# Altium schematic symbol library Cyberdeck.SchLib: 178 symbols (part 1 of 5)
Pins are listed as number, name and electrical type; pins without a type are passive.

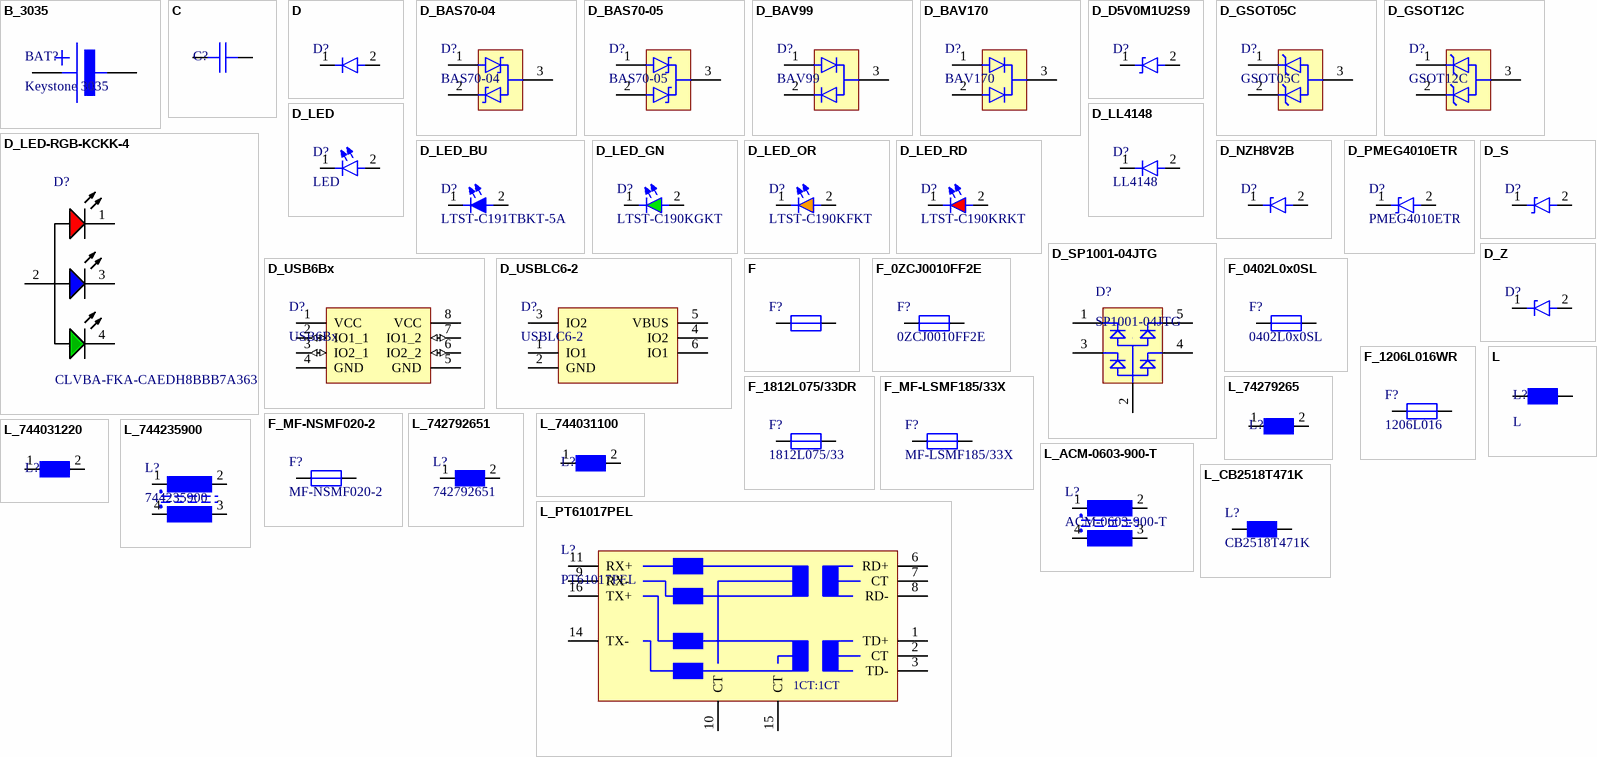
[diagram p0: symbols B_3035 to L_PT61017PEL]

## B_3035
designator BAT?, comment Keystone 3035
THM HOLDER FOR 20MM CELL NICKEL; Manufacturer: Keystone Electronics; Manufacturer Part Number: 3035; Number of Cells: 1; Supplier 1: Digi-Key; Supplier Part Number 1: 36-3035-ND; Stock 1: 9933; Pricing 1: 1=0.6, 10=0.558, 50=0.5516, 100=0.428, 250=0.3908, 500=0.3722, 1000=0.31265, 2500=0.27915, 5000=0.26985 (USD); Mount: Through Hole,PCB; Termination: PC Pin; ComponentLink1URL: http://www.keyelco.com/product-pdf.cfm?p=14185; ComponentLink1Description: http://www.keyelco.com/product-pdf.cfm?p=14185; Supplier 2: Digi-Key; Supplier Part Number 2: 609-1041-ND
footprint 3035 (Keystone 3035)
pins: 1 (power), 2 (power)

## C
designator C?
Chip capacitor, generic
footprint 0402_C
footprint 0603_C
footprint 0805_C_E0
footprint 1206_C_FC
footprint 1210_C_GD
footprint 1812_C_JC
pins: 1, 2

## D
designator D?, comment Diode  (value not drawn)
Diode, generic
footprint SOD80 (MELF Diode, 2-Leads, Body 3.45x1.30mm, IPC Medium Density)
footprint 0402_D
footprint 0603_D
footprint 0805_D
footprint SOD123 (SODFL, 2-Leads, Body 1.70x3.50mm, IPC Medium Density)
pins: 1, 2

## D_BAS70-04
designator D?, comment BAS70-04
DIODE ARRAY SCHOTTKY 70V SOT23; Manufacturer 1: Infineon; Manufacturer Part Number 1: BAS7004E6327HTSA1; Supplier 1: Digi-Key; Supplier Part Number 1: BAS7004E6327HTSA1CT-ND; Case/Package: SOT-23; ComponentLink1URL: https://datasheet.ciiva.com/1243/45894-1243522.pdf; ComponentLink1Description: https://datasheet.ciiva.com/1243/45894-1243522.pdf; ComponentLink2URL: https://datasheet.ciiva.com/26924/getdatasheetpartid-775787-26924731.pdf; ComponentLink2Description: https://datasheet.ciiva.com/26924/getdatasheetpartid-775787-26924731.pdf; ComponentLink3URL: https://datasheet.ciiva.com/25953/infineon-bas70-bas170series-ds-v01-01-en-25953243.pdf; ComponentLink3Description: https://datasheet.ciiva.com/25953/infineon-bas70-bas170series-ds-v01-01-en-25953243.pdf; ComponentLink4URL: https://datasheet.ciiva.com/1180/45894-1180127.pdf; ComponentLink4Description: https://datasheet.ciiva.com/1180/45894-1180127.pdf; ComponentLink5URL: https://datasheet.ciiva.com/1202/45894-1202974.pdf; ComponentLink5Description: https://datasheet.ciiva.com/1202/45894-1202974.pdf; ComponentLink6URL: https://datasheet.ciiva.com/8302/infineon-bas70-bas170series-ds-v01-01-en-8302987.pdf; ComponentLink6Description: https://datasheet.ciiva.com/8302/infineon-bas70-bas170series-ds-v01-01-en-8302987.pdf; ComponentLink7URL: https://datasheet.ciiva.com/906/infineon-bas70-bas170series-ds-v01-01-en-906277.pdf; ComponentLink7Description: https://datasheet.ciiva.com/906/infineon-bas70-bas170series-ds-v01-01-en-906277.pdf; ComponentLink8URL: https://datasheet.ciiva.com/906/infineon-bas70-bas170series-ds-v01-01-en-906276.pdf; ComponentLink8Description: https://datasheet.ciiva.com/906/infineon-bas70-bas170series-ds-v01-01-en-906276.pdf; ComponentLink9URL: https://datasheet.ciiva.com/906/infineon-bas70-bas170series-ds-v01-01-en-906278.pdf; ComponentLink9Description: https://datasheet.ciiva.com/906/infineon-bas70-bas170series-ds-v01-01-en-906278.pdf; ComponentLink10URL: https://datasheet.ciiva.com/3048/infineon-bas70-bas170series-ds-v01-01-en-3048117.pdf; ComponentLink10Description: https://datasheet.ciiva.com/3048/infineon-bas70-bas170series-ds-v01-01-en-3048117.pdf
footprint SOT-23 (SOT23, 3-Leads, Body 2.90x2.45mm, Pitch 0.95mm, IPC Medium Density)
pins: 1, 2, 3

## D_BAS70-05
designator D?, comment BAS70-05
Diode Schottky 70V 0.07A Automotive 3-Pin SOT-23 T/R; Manufacturer: Infineon; Manufacturer Part Number: BAS7005E6327HTSA1; Supplier 1: Digi-Key; Supplier Part Number 1: BAS7005E6327HTSA1CT-ND; Case/Package: SOT-23; ComponentLink1URL: https://datasheet.ciiva.com/3049/infineon-bas70-bas170series-ds-v01-01-en-3049350.pdf; ComponentLink1Description: https://datasheet.ciiva.com/3049/infineon-bas70-bas170series-ds-v01-01-en-3049350.pdf
footprint SOT-23 (SOT23, 3-Leads, Body 2.90x2.45mm, Pitch 0.95mm, IPC Medium Density)
pins: 1, 2, 3

## D_BAV99
designator D?, comment BAV99
DIODE, SW DUAL, 75V, 0.35W, SOT23-3; Manufacturer 1: Diodes; Manufacturer Part Number 1: BAV99-7-F; Supplier 1: Digi-Key; Supplier Part Number 1: BAV99-FDICT-ND; Case/Package: SOT-23; ComponentLink1URL: https://datasheet.ciiva.com/4435/ds12007-83610-4435123.pdf; ComponentLink1Description: https://datasheet.ciiva.com/4435/ds12007-83610-4435123.pdf; ComponentLink2URL: https://datasheet.ciiva.com/16199/ds12007-16199031.pdf; ComponentLink2Description: https://datasheet.ciiva.com/16199/ds12007-16199031.pdf; ComponentLink3URL: https://datasheet.ciiva.com/25954/ds12007-25954555.pdf; ComponentLink3Description: https://datasheet.ciiva.com/25954/ds12007-25954555.pdf; ComponentLink4URL: https://datasheet.ciiva.com/15144/getdatasheetpartid-88401-15144620.pdf; ComponentLink4Description: https://datasheet.ciiva.com/15144/getdatasheetpartid-88401-15144620.pdf; ComponentLink5URL: https://datasheet.ciiva.com/1180/ds12007-1180726.pdf; ComponentLink5Description: https://datasheet.ciiva.com/1180/ds12007-1180726.pdf; ComponentLink6URL: https://datasheet.ciiva.com/8303/ds12007-8303318.pdf; ComponentLink6Description: https://datasheet.ciiva.com/8303/ds12007-8303318.pdf; ComponentLink7URL: https://datasheet.ciiva.com/49516/1539331-49516470.pdf; ComponentLink7Description: https://datasheet.ciiva.com/49516/1539331-49516470.pdf
footprint SOT-23 (SOT23, 3-Leads, Body 2.90x2.45mm, Pitch 0.95mm, IPC Medium Density)
pins: 1, 2, 3

## D_BAV170
designator D?, comment BAV170
DIODE ARRAY GP 80V 200MA SOT23; Manufacturer: Infineon; Manufacturer Part Number: BAV170E6327; Supplier 1: Digi-Key; Supplier Part Number 1: BAV170E6327HTSA1CT-ND; Case/Package: SOT-23; ComponentLink1URL: https://datasheet.ciiva.com/8300/infineon-bav170series-ds-v01-01-en-8300657.pdf; ComponentLink1Description: https://datasheet.ciiva.com/8300/infineon-bav170series-ds-v01-01-en-8300657.pdf; ComponentLink2URL: https://datasheet.ciiva.com/4452/bav170series-84649-4452484.pdf; ComponentLink2Description: https://datasheet.ciiva.com/4452/bav170series-84649-4452484.pdf; ComponentLink3URL: https://datasheet.ciiva.com/26851/getdatasheetpartid-572321-26851099.pdf; ComponentLink3Description: https://datasheet.ciiva.com/26851/getdatasheetpartid-572321-26851099.pdf; ComponentLink4URL: https://datasheet.ciiva.com/908/infineon-bav170series-ds-v01-01-en-908727.pdf; ComponentLink4Description: https://datasheet.ciiva.com/908/infineon-bav170series-ds-v01-01-en-908727.pdf; ComponentLink5URL: https://datasheet.ciiva.com/908/infineon-bav170series-ds-v01-01-en-908728.pdf; ComponentLink5Description: https://datasheet.ciiva.com/908/infineon-bav170series-ds-v01-01-en-908728.pdf; ComponentLink6URL: https://datasheet.ciiva.com/908/infineon-bav170series-ds-v01-01-en-908729.pdf; ComponentLink6Description: https://datasheet.ciiva.com/908/infineon-bav170series-ds-v01-01-en-908729.pdf
footprint SOT-23 (SOT23, 3-Leads, Body 2.90x2.45mm, Pitch 0.95mm, IPC Medium Density)
pins: 1, 2, 3

## D_D5V0M1U2S9
designator D?, comment D5V0M1U2S9  (value not drawn)
SURFACE MOUNT UNIDIRECTIONAL TVS DIODE; Manufacturer: Diodes; Manufacturer Part Number: D5V0M1U2S9-7; Supplier 1: Digi-Key; Supplier Part Number 1: D5V0M1U2S9-7DICT-ND; ComponentLink1URL: http://www.mouser.com/ds/2/115/D5V0M1U2S9-756882.pdf; ComponentLink1Description: http://www.mouser.com/ds/2/115/D5V0M1U2S9-756882.pdf; ComponentLink2URL: https://www.diodes.com/assets/Datasheets/D5V0M1U2S9.pdf; ComponentLink2Description: https://www.diodes.com/assets/Datasheets/D5V0M1U2S9.pdf
footprint SOD923
pins: 1, 2

## D_GSOT05C
designator D?, comment GSOT05C
ESD Suppressor TVS ±30KV 3-Pin SOT-23 T/R; Manufacturer 1: Vishay; Manufacturer Part Number 1: GSOT05C-E3-08; Supplier 1: Digi-Key; Supplier Part Number 1: GSOT05C-E3-08CT-ND; Case/Package: SOT-23; ComponentLink1URL: https://datasheet.ciiva.com/24154/gsot03c-24154936.pdf; ComponentLink1Description: https://datasheet.ciiva.com/24154/gsot03c-24154936.pdf; ComponentLink2URL: https://datasheet.ciiva.com/29574/gsot03c-29574168.pdf; ComponentLink2Description: https://datasheet.ciiva.com/29574/gsot03c-29574168.pdf; ComponentLink3URL: https://datasheet.ciiva.com/29574/gsot03c-29574166.pdf; ComponentLink3Description: https://datasheet.ciiva.com/29574/gsot03c-29574166.pdf; ComponentLink4URL: https://datasheet.ciiva.com/29574/gsot03c-29574167.pdf; ComponentLink4Description: https://datasheet.ciiva.com/29574/gsot03c-29574167.pdf
footprint SOT-23 (SOT23, 3-Leads, Body 2.90x2.45mm, Pitch 0.95mm, IPC Medium Density)
pins: 1, 2, 3

## D_GSOT12C
designator D?, comment GSOT12C
ESD Suppressor TVS ±30KV 3-Pin SOT-23 T/R; Manufacturer 1: Vishay; Manufacturer Part Number 1: GSOT12C-E3-08; Supplier 1: Digi-Key; Supplier Part Number 1: GSOT12C-E3-08CT-ND; Case/Package: SOT-23; ComponentLink1URL: https://datasheet.ciiva.com/26945/getdatasheetpartid-790068-26945989.pdf; ComponentLink1Description: https://datasheet.ciiva.com/26945/getdatasheetpartid-790068-26945989.pdf; ComponentLink2URL: https://datasheet.ciiva.com/28375/gsot03c-28375373.pdf; ComponentLink2Description: https://datasheet.ciiva.com/28375/gsot03c-28375373.pdf; ComponentLink3URL: https://datasheet.ciiva.com/29588/gsot03c-29588509.pdf; ComponentLink3Description: https://datasheet.ciiva.com/29588/gsot03c-29588509.pdf; ComponentLink4URL: https://datasheet.ciiva.com/29588/gsot03c-29588508.pdf; ComponentLink4Description: https://datasheet.ciiva.com/29588/gsot03c-29588508.pdf; ComponentLink5URL: https://datasheet.ciiva.com/48533/gsot03c-48533337.pdf; ComponentLink5Description: https://datasheet.ciiva.com/48533/gsot03c-48533337.pdf; ComponentLink6URL: https://datasheet.ciiva.com/29588/gsot03c-29588507.pdf; ComponentLink6Description: https://datasheet.ciiva.com/29588/gsot03c-29588507.pdf
footprint SOT-23 (SOT23, 3-Leads, Body 2.90x2.45mm, Pitch 0.95mm, IPC Medium Density)
pins: 1, 2, 3

## D_LED
designator D?, comment LED
LED, generic
footprint LED-0603 (LED generic. 2-Leads, Body 1.6x0.8x0.95 mm)
footprint LED-0603 - WH (LED generic. 2-Leads, Body 1.6x0.8x0.95 mm)
pins: 1, 2

## D_LED-RGB-KCKK-4
designator D?, comment CLVBA-FKA-CAEDH8BBB7A363
3-in-1 SMD Led, 1.9 V Red, 3 V Green, 3 V Blue, -40 to 100 degC, 4-Pin PLCC, RoHS, Reel; Luminous Intensity: 71mcd,140mcd,36mcd; Viewing Angle: 120deg; Brand: Cree,Inc.; Lens Color/Style: UVTinted; Forward Current: 20mA; LED Size: 3.2mmx2.8mmx1.9mm; Wavelength/Color Temperature: 630nm,527nm,470nm; Forward Voltage: 1.9V,3V,3V; Illumination Color: RGB; Package / Case: PLCC-4; Package Reference: PLCC-4; Packaging: Reel; Maximum Operating Temperature: +100C; Minimum Operating Temperature: -40C; Product Category: StandardLEDs-SMD; Manufacturer URL: http://www.cree.com/; RoHS: Details; Factory Pack Quantity: 2000; Datasheet URL: http://datasheet.octopart.com/CLVBA-FKA-CAEDH8BBB7A363-Cree-datasheet-44497822.pdf; Manufacturer: Cree,Inc.; Mounting Technology: SurfaceMount; Package Description: 4-Pin Plastic Leaded Chip Carrier, Body 3.2 x 2.8 mm; Datasheet Version: 12/2014
footprint CLVBA-FKA_RGB_A_V (SMD, 4-Leads, Body 3.2x2.8mm)
pins: 1 RED, 2 COMMON, 3 BLUE, 4 GREEN

## D_LED_BU
designator D?, comment LTST-C191TBKT-5A
LED BLUE  0603 SMD; Manufacturer: Vishay Lite-On; Supplier 1: Digi-Key; Supplier Part Number 1: 160-2212-1-ND; Manufacturer Part Number: LTST-C191TBKT-5A; Case/Package: 0603; ComponentLink1URL: http://components.arrow.com/part/dataview/52218576S9813001N1331; ComponentLink1Description: http://components.arrow.com/part/dataview/52218576S9813001N1331; ComponentLink2URL: http://optoelectronics.liteon.com/zh-cn/api/DwonloadFileHandler.ashx?txtSpecNo=DS22-2003-020&txtPartNo=LTST-C191TBKT-5A; ComponentLink2Description: http://optoelectronics.liteon.com/zh-cn/api/DwonloadFileHandler.ashx?txtSpecNo=DS22-2003-020&txtPartNo=LTST-C191TBKT-5A; ComponentLink3URL: http://www.mouser.com/ds/2/239/LTST-C191TBKT-5A-1150649.pdf; ComponentLink3Description: http://www.mouser.com/ds/2/239/LTST-C191TBKT-5A-1150649.pdf
footprint LED-0603 (LED generic. 2-Leads, Body 1.6x0.8x0.95 mm)
footprint LED-0603 - BU (LED generic. 2-Leads, Body 1.6x0.8x0.95 mm)
pins: 1, 2

## D_LED_GN
designator D?, comment LTST-C190KGKT
LED GREEN  0603 SMD; Manufacturer 1: Vishay Lite-On; Supplier 1: Digi-Key; Supplier Part Number 1: 160-1435-1-ND; Manufacturer Part Number 1: LTST-C190KGKT; Case/Package: 0603; Colour: Green; ComponentLink1URL: https://datasheet.ciiva.com/11774/0900766b80dc02a8-11774060.pdf; ComponentLink1Description: https://datasheet.ciiva.com/11774/0900766b80dc02a8-11774060.pdf; ComponentLink2URL: https://datasheet.ciiva.com/12403/100-ltst-c190kgkt-63268-12403899.pdf; ComponentLink2Description: https://datasheet.ciiva.com/12403/100-ltst-c190kgkt-63268-12403899.pdf; ComponentLink3URL: https://datasheet.ciiva.com/15117/getdatasheetpartid-141494-15117731.pdf; ComponentLink3Description: https://datasheet.ciiva.com/15117/getdatasheetpartid-141494-15117731.pdf; ComponentLink4URL: https://datasheet.ciiva.com/2109/s-110-ltst-c190kgkt-2109989.pdf; ComponentLink4Description: https://datasheet.ciiva.com/2109/s-110-ltst-c190kgkt-2109989.pdf; ComponentLink5URL: https://datasheet.ciiva.com/2109/s-110-ltst-c190kgkt-2109988.pdf; ComponentLink5Description: https://datasheet.ciiva.com/2109/s-110-ltst-c190kgkt-2109988.pdf; ComponentLink6URL: https://datasheet.ciiva.com/2109/s-110-ltst-c190kgkt-2109990.pdf; ComponentLink6Description: https://datasheet.ciiva.com/2109/s-110-ltst-c190kgkt-2109990.pdf
footprint LED-0603 (LED generic. 2-Leads, Body 1.6x0.8x0.95 mm)
footprint LED-0603 - GN (LED generic. 2-Leads, Body 1.6x0.8x0.95 mm)
pins: 1, 2

## D_LED_OR
designator D?, comment LTST-C190KFKT
LED ORANGE  0603 SMD; Manufacturer: Vishay Lite-On; Supplier 1: Digi-Key; Supplier Part Number 1: 160-1434-1-ND; Manufacturer Part Number: LTST-C190KFKT; ComponentLink1URL: https://datasheet.ciiva.com/12400/100-ltst-c190kfkt-53640-12400769.pdf; ComponentLink1Description: https://datasheet.ciiva.com/12400/100-ltst-c190kfkt-53640-12400769.pdf; ComponentLink2URL: https://datasheet.ciiva.com/16396/lite-on20ltst-c190kfkt-16396246.pdf; ComponentLink2Description: https://datasheet.ciiva.com/16396/lite-on20ltst-c190kfkt-16396246.pdf; ComponentLink3URL: https://datasheet.ciiva.com/11774/0900766b80dc02a7-11774744.pdf; ComponentLink3Description: https://datasheet.ciiva.com/11774/0900766b80dc02a7-11774744.pdf; ComponentLink4URL: https://datasheet.ciiva.com/15201/getdatasheetpartid-309341-15201388.pdf; ComponentLink4Description: https://datasheet.ciiva.com/15201/getdatasheetpartid-309341-15201388.pdf; ComponentLink5URL: https://datasheet.ciiva.com/2109/s-110-ltst-c190kfkt-2109976.pdf; ComponentLink5Description: https://datasheet.ciiva.com/2109/s-110-ltst-c190kfkt-2109976.pdf; ComponentLink6URL: https://datasheet.ciiva.com/2109/s-110-ltst-c190kfkt-2109977.pdf; ComponentLink6Description: https://datasheet.ciiva.com/2109/s-110-ltst-c190kfkt-2109977.pdf; ComponentLink7URL: https://datasheet.ciiva.com/2109/s-110-ltst-c190kfkt-2109978.pdf; ComponentLink7Description: https://datasheet.ciiva.com/2109/s-110-ltst-c190kfkt-2109978.pdf; ComponentLink8URL: https://datasheet.ciiva.com/15116/getdatasheetpartid-719825-15116727.pdf; ComponentLink8Description: https://datasheet.ciiva.com/15116/getdatasheetpartid-719825-15116727.pdf; ComponentLink13URL: https://datasheet.ciiva.com/16214/abmm2-16214428.pdf; ComponentLink13Description: https://datasheet.ciiva.com/16214/abmm2-16214428.pdf
footprint LED-0603 (LED generic. 2-Leads, Body 1.6x0.8x0.95 mm)
footprint LED-0603 - OR (LED generic. 2-Leads, Body 1.6x0.8x0.95 mm)
pins: 1, 2

## D_LED_RD
designator D?, comment LTST-C190KRKT
LED RED  0603 SMD; Manufacturer 1: Vishay Lite-On; Supplier 1: Digi-Key; Supplier Part Number 1: 160-1436-1-ND; Manufacturer Part Number 1: LTST-C190KRKT; Case/Package: 0603; ComponentLink1URL: https://datasheet.ciiva.com/11774/0900766b80dc02a9-11774043.pdf; ComponentLink1Description: https://datasheet.ciiva.com/11774/0900766b80dc02a9-11774043.pdf; ComponentLink2URL: https://datasheet.ciiva.com/15117/getdatasheetpartid-57395-15117240.pdf; ComponentLink2Description: https://datasheet.ciiva.com/15117/getdatasheetpartid-57395-15117240.pdf; ComponentLink3URL: https://datasheet.ciiva.com/16427/ltst-c190krkt-16427674.pdf; ComponentLink3Description: https://datasheet.ciiva.com/16427/ltst-c190krkt-16427674.pdf; ComponentLink4URL: https://datasheet.ciiva.com/12403/100-ltst-c190krkt-59805-12403895.pdf; ComponentLink4Description: https://datasheet.ciiva.com/12403/100-ltst-c190krkt-59805-12403895.pdf; ComponentLink5URL: https://datasheet.ciiva.com/19482/1260381-19482354.pdf; ComponentLink5Description: https://datasheet.ciiva.com/19482/1260381-19482354.pdf; ComponentLink6URL: https://datasheet.ciiva.com/2109/s-110-ltst-c190krkt-2109992.pdf; ComponentLink6Description: https://datasheet.ciiva.com/2109/s-110-ltst-c190krkt-2109992.pdf; ComponentLink7URL: https://datasheet.ciiva.com/2109/s-110-ltst-c190krkt-2109993.pdf; ComponentLink7Description: https://datasheet.ciiva.com/2109/s-110-ltst-c190krkt-2109993.pdf; ComponentLink8URL: https://datasheet.ciiva.com/2109/s-110-ltst-c190krkt-2109991.pdf; ComponentLink8Description: https://datasheet.ciiva.com/2109/s-110-ltst-c190krkt-2109991.pdf; ComponentLink9URL: https://datasheet.ciiva.com/26937/getdatasheetpartid-631582-26937958.pdf; ComponentLink9Description: https://datasheet.ciiva.com/26937/getdatasheetpartid-631582-26937958.pdf
footprint LED-0603 (LED generic. 2-Leads, Body 1.6x0.8x0.95 mm)
footprint LED-0603 - RD (LED generic. 2-Leads, Body 1.6x0.8x0.95 mm)
pins: 1, 2

## D_LL4148
designator D?, comment LL4148
DIODE GEN PURP 100V 200MA SOD80; Manufacturer 1: ON Semiconductor / Fairchild; Supplier 1: Digi-Key; Supplier Part Number 1: LL4148FSCT-ND; Manufacturer Part Number 1: LL4148; ComponentLink1URL: https://datasheet.ciiva.com/4453/ll4148-70504-4453114.pdf; ComponentLink1Description: https://datasheet.ciiva.com/4453/ll4148-70504-4453114.pdf; ComponentLink2URL: https://datasheet.ciiva.com/27048/94908-27048041.pdf; ComponentLink2Description: https://datasheet.ciiva.com/27048/94908-27048041.pdf; ComponentLink3URL: https://datasheet.ciiva.com/1181/1730036-1181026.pdf; ComponentLink3Description: https://datasheet.ciiva.com/1181/1730036-1181026.pdf; ComponentLink4URL: https://datasheet.ciiva.com/8303/ll4148-8303779.pdf; ComponentLink4Description: https://datasheet.ciiva.com/8303/ll4148-8303779.pdf; ComponentLink5URL: https://datasheet.ciiva.com/26912/getdatasheetpartid-110057-26912779.pdf; ComponentLink5Description: https://datasheet.ciiva.com/26912/getdatasheetpartid-110057-26912779.pdf; ComponentLink6URL: https://datasheet.ciiva.com/8053/1896420-8053645.pdf; ComponentLink6Description: https://datasheet.ciiva.com/8053/1896420-8053645.pdf; ComponentLink7URL: https://datasheet.ciiva.com/22735/1896420-22735578.pdf; ComponentLink7Description: https://datasheet.ciiva.com/22735/1896420-22735578.pdf; ComponentLink8URL: https://datasheet.ciiva.com/910/ll4148-910343.pdf; ComponentLink8Description: https://datasheet.ciiva.com/910/ll4148-910343.pdf; ComponentLink9URL: https://datasheet.ciiva.com/910/ll4148-910344.pdf; ComponentLink9Description: https://datasheet.ciiva.com/910/ll4148-910344.pdf; ComponentLink10URL: https://datasheet.ciiva.com/910/ll4148-910345.pdf; ComponentLink10Description: https://datasheet.ciiva.com/910/ll4148-910345.pdf
footprint SOD80 (MELF Diode, 2-Leads, Body 3.45x1.30mm, IPC Medium Density)
pins: 1, 2

## D_NZH8V2B
designator D?, comment NZH8V2B  (value not drawn)
Diode Zener Single 8.19V 2% 1W Automotive 2-Pin SOD-123F T/R; Manufacturer 1: NXP Semiconductors; Manufacturer Part Number 1: NZH8V2B,115; Supplier 1: Digi-Key; Supplier Part Number 1: 1727-5080-1-ND; ComponentLink1URL: https://datasheet.ciiva.com/17265/nzh-ser-17265389.pdf; ComponentLink1Description: https://datasheet.ciiva.com/17265/nzh-ser-17265389.pdf; ComponentLink2URL: https://datasheet.ciiva.com/10645/nzh-ser-10645279.pdf; ComponentLink2Description: https://datasheet.ciiva.com/10645/nzh-ser-10645279.pdf; ComponentLink3URL: https://datasheet.ciiva.com/890/nzh-ser-890277.pdf; ComponentLink3Description: https://datasheet.ciiva.com/890/nzh-ser-890277.pdf; ComponentLink4URL: https://datasheet.ciiva.com/890/nzh-ser-890275.pdf; ComponentLink4Description: https://datasheet.ciiva.com/890/nzh-ser-890275.pdf; ComponentLink5URL: https://datasheet.ciiva.com/890/nzh-ser-890276.pdf; ComponentLink5Description: https://datasheet.ciiva.com/890/nzh-ser-890276.pdf
footprint SOD123 (SODFL, 2-Leads, Body 1.70x3.50mm, IPC Medium Density)
pins: 1, 2

## D_PMEG4010ETR
designator D?, comment PMEG4010ETR
Diode Schottky 40V 1A 2-Pin SOD-123W; Manufacturer 1: NXP Semiconductors; Manufacturer Part Number 1: PMEG4010ETR,115; ComponentLink1URL: https://datasheet.ciiva.com/24111/pmeg4010etr-278098-24111944.pdf; ComponentLink1Description: https://datasheet.ciiva.com/24111/pmeg4010etr-278098-24111944.pdf; ComponentLink2URL: https://datasheet.ciiva.com/29592/pmeg4010etr-29592374.pdf; ComponentLink2Description: https://datasheet.ciiva.com/29592/pmeg4010etr-29592374.pdf; ComponentLink3URL: https://datasheet.ciiva.com/29592/pmeg4010etr-29592375.pdf; ComponentLink3Description: https://datasheet.ciiva.com/29592/pmeg4010etr-29592375.pdf; Supplier 1: Digi-Key; Supplier Part Number 1: 1727-1341-1-ND
footprint SOD123 (SODFL, 2-Leads, Body 1.70x3.50mm, IPC Medium Density)
pins: 1, 2

## D_S
designator D?, comment Schottky Diode  (value not drawn)
Schottky diode, generic
footprint 0402_D
footprint 0603_D
footprint 0805_D
footprint SOD123 (SODFL, 2-Leads, Body 1.70x3.50mm, IPC Medium Density)
pins: 1, 2

## D_SP1001-04JTG
designator D?, comment SP1001-04JTG
TVS DIODE 5.5V 13V SC70-5; Manufacturer: Littelfuse; Direction: Unidirectional; Capacitance: 8pF; Max Surge Current: 2A; Number of Channels: 4; Min Breakdown Voltage: 7V; Power Line Protection: No; Leakage Current: 500nA; Supplier 1: Digi-Key; Supplier Part Number 1: F2895DKR-ND; Manufacturer Part Number: SP1001-04JTG; Stock 1: 12164; Pricing 1: 1 = 0.62000, 10 = 0.51900, 25 = 0.45440, 100 = 0.38930, 250 = 0.33744, 500 = 0.28552, 1000 = 0.22063 (USD); RoHS: Yes; Mount: Surface Mount; Case/Package: SC; Number of Pins: 5; Min Operating Temperature: -40°C; Max Operating Temperature: 85°C; Operating Supply Voltage: 5.5V; Packaging: Tape and Reel; Package Quantity: 3000; Polarity: Unidirectional; Breakdown Voltage: 5.5V; Clamping Voltage: 13V; Termination: SMD/SMT; Number of Unidirectional Channels: 4; Reverse Standoff Voltage: 5.5V; Working Voltage: 5.5V; Peak Pulse Current: 2A; Composition: Zener; Length: 2.25mm; Depth: 1.35mm; Radiation Hardening: No; REACH SVHC: Unknown; Lead Free: Lead Free; ComponentLink1URL: https://datasheet.ciiva.com/4510/littelfuse-spa-sp1001-0x-63620-4510770.pdf?src-supplier=Mouser; ComponentLink1Description: https://datasheet.ciiva.com/4510/littelfuse-spa-sp1001-0x-63620-4510770.pdf?src-supplier=Mouser; ComponentLink2URL: https://datasheet.ciiva.com/331/littelfuse-tvs-diode-array-sp1001-datasheet-pdf-331764.pdf?src-supplier=Digi-Key; ComponentLink2Description: https://datasheet.ciiva.com/331/littelfuse-tvs-diode-array-sp1001-datasheet-pdf-331764.pdf?src-supplier=Digi-Key; ComponentLink3URL: https://datasheet.ciiva.com/331/littelfuse-tvs-diode-array-sp1001-datasheet-pdf-331765.pdf?src-supplier=Digi-Key; ComponentLink3Description: https://datasheet.ciiva.com/331/littelfuse-tvs-diode-array-sp1001-datasheet-pdf-331765.pdf?src-supplier=Digi-Key; ComponentLink4URL: https://datasheet.ciiva.com/331/littelfuse-tvs-diode-array-sp1001-datasheet-pdf-331766.pdf?src-supplier=Digi-Key; ComponentLink4Description: https://datasheet.ciiva.com/331/littelfuse-tvs-diode-array-sp1001-datasheet-pdf-331766.pdf?src-supplier=Digi-Key; ComponentLink5URL: https://datasheet.ciiva.com/1268/littelfuse-spa-sp1001-0x-1268334.pdf?src-supplier=Element14; ComponentLink5Description: https://datasheet.ciiva.com/1268/littelfuse-spa-sp1001-0x-1268334.pdf?src-supplier=Element14
footprint SOT353-1
pins: 1, 2, 3, 4, 5

## D_USB6Bx
designator D?, comment USB6Bx
TVS DIODE 5.25VWM 8SOIC; Manufacturer 1: STMicroelectronics; Manufacturer Part Number 1: USB6B1RL; Case/Package: SOIC; ComponentLink1URL: https://datasheet.ciiva.com/26787/usb6b1rl-26787915.pdf; ComponentLink1Description: https://datasheet.ciiva.com/26787/usb6b1rl-26787915.pdf; ComponentLink2URL: https://datasheet.ciiva.com/26912/getdatasheetpartid-202409-26912476.pdf; ComponentLink2Description: https://datasheet.ciiva.com/26912/getdatasheetpartid-202409-26912476.pdf; ComponentLink3URL: https://datasheet.ciiva.com/4508/cd00001361-4508455.pdf; ComponentLink3Description: https://datasheet.ciiva.com/4508/cd00001361-4508455.pdf; Supplier 1: Digi-Key; Supplier Part Number 1: 497-3281-1-ND
footprint SO8 (SOIC, 8-Leads, Body 4.90x3.90mm, Pitch 1.27mm, IPC Medium Density)
pins: 1 VCC (power), 2 IO1_1 (io), 3 IO2_1 (io), 4 GND (power), 5 GND (power), 6 IO2_2 (io), 7 IO1_2 (io), 8 VCC (power)

## D_USBLC6-2
designator D?, comment USBLC6-2
TVS DIODE 5.25VWM 17VC SOT666; Manufacturer: STMicroelectronics; Manufacturer Part Number: USBLC6-2P6; Supplier 1: Digi-Key; Supplier Part Number 1: 497-5026-1-ND; ComponentLink1URL: https://datasheet.ciiva.com/15143/getdatasheetpartid-98673-15143462.pdf; ComponentLink1Description: https://datasheet.ciiva.com/15143/getdatasheetpartid-98673-15143462.pdf; ComponentLink2URL: https://datasheet.ciiva.com/14186/usblc6-2-st-eng-tds-14186568.pdf; ComponentLink2Description: https://datasheet.ciiva.com/14186/usblc6-2-st-eng-tds-14186568.pdf; ComponentLink3URL: https://datasheet.ciiva.com/22692/1690354-22692453.pdf; ComponentLink3Description: https://datasheet.ciiva.com/22692/1690354-22692453.pdf; ComponentLink4URL: https://datasheet.ciiva.com/22685/1690354-22685832.pdf; ComponentLink4Description: https://datasheet.ciiva.com/22685/1690354-22685832.pdf; ComponentLink5URL: https://datasheet.ciiva.com/16378/cd00050750-16378714.pdf; ComponentLink5Description: https://datasheet.ciiva.com/16378/cd00050750-16378714.pdf; ComponentLink6URL: https://datasheet.ciiva.com/4508/cd00050750-4508892.pdf; ComponentLink6Description: https://datasheet.ciiva.com/4508/cd00050750-4508892.pdf; ComponentLink7URL: https://datasheet.ciiva.com/41444/001184108-da-01-en-ic-esd-protection-usblc6-2p6-sot-666-stm-41444134.pdf; ComponentLink7Description: https://datasheet.ciiva.com/41444/001184108-da-01-en-ic-esd-protection-usblc6-2p6-sot-666-stm-41444134.pdf; Case/Package: SOT-666
footprint SOT-666 (SOTFL, 6-Leads, Body 1.60x1.60mm, Pitch 0.50mm, IPC Medium Density)
pins: 1 IO1, 2 GND, 3 IO2, 4 IO2, 5 VBUS, 6 IO1

## D_Z
designator D?, comment Zehner Diode  (value not drawn)
Zehner Diode, generic
footprint 0402_D
footprint 0603_D
footprint 0805_D
footprint DO-214AC
footprint SOD123 (SODFL, 2-Leads, Body 1.70x3.50mm, IPC Medium Density)
pins: 1, 2

## F
designator F?
Fuse generic
footprint 0402_PTC
footprint 1206_PTC
footprint 1812_PTC
footprint MF-LSMF185/33X
pins: 1, 2

## F_0ZCJ0010FF2E
designator F?, comment 0ZCJ0010FF2E
PTC RESTTBLE 0.10A 60V CHIP 1206; Manufacturer: Bel; Supplier 1: Digi-Key; Supplier Part Number 1: 507-1794-1-ND; Manufacturer Part Number: 0ZCJ0010FF2E; Case/Package: 1206; ComponentLink1URL: https://datasheet.ciiva.com/18550/0zcj-18550598.pdf; ComponentLink1Description: https://datasheet.ciiva.com/18550/0zcj-18550598.pdf; ComponentLink2URL: https://datasheet.ciiva.com/18550/0zcj-18550599.pdf; ComponentLink2Description: https://datasheet.ciiva.com/18550/0zcj-18550599.pdf; ComponentLink3URL: https://datasheet.ciiva.com/18550/0zcj-18550600.pdf; ComponentLink3Description: https://datasheet.ciiva.com/18550/0zcj-18550600.pdf
footprint 1206_PTC
pins: 1, 2

## F_0402L0x0SL
designator F?, comment 0402L0x0SL
PTC RESETBLE 6V, 0402; Manufacturer 1: Littelfuse; Manufacturer Part Number 1: 0402L010SLKR; Supplier 1: Digi-Key; Case/Package: 0402; ComponentLink1URL: https://datasheet.ciiva.com/7443/littelfuse-ptc-lorho-datasheet-pdf-7443453.pdf; ComponentLink1Description: https://datasheet.ciiva.com/7443/littelfuse-ptc-lorho-datasheet-pdf-7443453.pdf; ComponentLink2URL: https://datasheet.ciiva.com/15201/getdatasheetpartid-712926-15201162.pdf; ComponentLink2Description: https://datasheet.ciiva.com/15201/getdatasheetpartid-712926-15201162.pdf; ComponentLink3URL: https://datasheet.ciiva.com/7443/littelfuse-ptc-lorho-datasheet-pdf-7443463.pdf; ComponentLink3Description: https://datasheet.ciiva.com/7443/littelfuse-ptc-lorho-datasheet-pdf-7443463.pdf; Supplier Part Number 1: F5756CT-ND
footprint 04020x0SL (04020x0SL, Resettable PTC)
pins: 1, 2

## F_1206L016WR
designator F?, comment 1206L016
PTC RESET 30V .160A SMD 1206; Manufacturer 1: Littelfuse; Manufacturer Part Number 1: 1206L016WR; Supplier 1: Digi-Key; Supplier Part Number 1: F3132CT-ND; Case/Package: 1206; ComponentLink1URL: https://datasheet.ciiva.com/16321/littelfuse-1206l-16321409.pdf; ComponentLink1Description: https://datasheet.ciiva.com/16321/littelfuse-1206l-16321409.pdf; ComponentLink2URL: https://datasheet.ciiva.com/30470/0900766b8128f4fb-30470039.pdf; ComponentLink2Description: https://datasheet.ciiva.com/30470/0900766b8128f4fb-30470039.pdf; ComponentLink3URL: https://datasheet.ciiva.com/14102/1206l-eng-datasheet-14102816.pdf; ComponentLink3Description: https://datasheet.ciiva.com/14102/1206l-eng-datasheet-14102816.pdf; ComponentLink4URL: https://datasheet.ciiva.com/1273/578280-1273584.pdf; ComponentLink4Description: https://datasheet.ciiva.com/1273/578280-1273584.pdf; ComponentLink5URL: https://datasheet.ciiva.com/325/littelfuse-ptc-1206l-325749.pdf; ComponentLink5Description: https://datasheet.ciiva.com/325/littelfuse-ptc-1206l-325749.pdf; ComponentLink6URL: https://datasheet.ciiva.com/1273/littelfuse-ptc-1206l-1273585.pdf; ComponentLink6Description: https://datasheet.ciiva.com/1273/littelfuse-ptc-1206l-1273585.pdf; ComponentLink7URL: https://datasheet.ciiva.com/325/littelfuse-ptc-1206l-325747.pdf; ComponentLink7Description: https://datasheet.ciiva.com/325/littelfuse-ptc-1206l-325747.pdf; ComponentLink8URL: https://datasheet.ciiva.com/325/littelfuse-ptc-1206l-325748.pdf; ComponentLink8Description: https://datasheet.ciiva.com/325/littelfuse-ptc-1206l-325748.pdf
footprint 1206_PTC
pins: 1, 2

## F_1812L075/33DR
designator F?, comment 1812L075/33
PTC RESETTABLE 33V 750MA 1812L; Manufacturer 1: Littelfuse; Manufacturer Part Number 1: 1812L075/33DR; Supplier 1: Digi-Key; Supplier Part Number 1: F3355CT-ND; Case/Package: 1812; ComponentLink1URL: https://datasheet.ciiva.com/30470/0900766b8128f4f7-30470050.pdf; ComponentLink1Description: https://datasheet.ciiva.com/30470/0900766b8128f4f7-30470050.pdf; ComponentLink2URL: https://datasheet.ciiva.com/1273/578288-1273739.pdf; ComponentLink2Description: https://datasheet.ciiva.com/1273/578288-1273739.pdf; ComponentLink3URL: https://datasheet.ciiva.com/1273/littelfuse-ptc-1812l-1273740.pdf; ComponentLink3Description: https://datasheet.ciiva.com/1273/littelfuse-ptc-1812l-1273740.pdf; ComponentLink4URL: https://datasheet.ciiva.com/325/littelfuse-ptc-1812l-325928.pdf; ComponentLink4Description: https://datasheet.ciiva.com/325/littelfuse-ptc-1812l-325928.pdf; ComponentLink5URL: https://datasheet.ciiva.com/325/littelfuse-ptc-1812l-325926.pdf; ComponentLink5Description: https://datasheet.ciiva.com/325/littelfuse-ptc-1812l-325926.pdf; ComponentLink6URL: https://datasheet.ciiva.com/325/littelfuse-ptc-1812l-325927.pdf; ComponentLink6Description: https://datasheet.ciiva.com/325/littelfuse-ptc-1812l-325927.pdf
footprint 1812_PTC
pins: 1, 2

## F_MF-LSMF185/33X
designator F?, comment MF-LSMF185/33X
FUSE PTC RESET 1.85A 33V SMD; Manufacturer: Bourns; Manufacturer Part Number: MF-LSMF185/33X-2; Supplier 1: Digi-Key; Supplier Part Number 1: MF-LSMF185/33X-2CT-ND; Case/Package: 2920; ComponentLink1URL: https://datasheet.ciiva.com/16206/mflsmf-16206021.pdf; ComponentLink1Description: https://datasheet.ciiva.com/16206/mflsmf-16206021.pdf; ComponentLink2URL: https://datasheet.ciiva.com/23655/1480010-23655431.pdf; ComponentLink2Description: https://datasheet.ciiva.com/23655/1480010-23655431.pdf; ComponentLink3URL: https://datasheet.ciiva.com/4501/mflsmf-16789-4501041.pdf; ComponentLink3Description: https://datasheet.ciiva.com/4501/mflsmf-16789-4501041.pdf; ComponentLink4URL: https://datasheet.ciiva.com/1274/1727942-1274469.pdf; ComponentLink4Description: https://datasheet.ciiva.com/1274/1727942-1274469.pdf; ComponentLink5URL: https://datasheet.ciiva.com/3019/mflsmf-3019774.pdf; ComponentLink5Description: https://datasheet.ciiva.com/3019/mflsmf-3019774.pdf; ComponentLink6URL: https://datasheet.ciiva.com/326/mflsmf-326541.pdf; ComponentLink6Description: https://datasheet.ciiva.com/326/mflsmf-326541.pdf; ComponentLink7URL: https://datasheet.ciiva.com/30075/575mfmsmf-30075887.pdf; ComponentLink7Description: https://datasheet.ciiva.com/30075/575mfmsmf-30075887.pdf; ComponentLink8URL: https://datasheet.ciiva.com/3019/mflsmf-3019775.pdf; ComponentLink8Description: https://datasheet.ciiva.com/3019/mflsmf-3019775.pdf; ComponentLink9URL: https://datasheet.ciiva.com/326/mflsmf-326539.pdf; ComponentLink9Description: https://datasheet.ciiva.com/326/mflsmf-326539.pdf; ComponentLink10URL: https://datasheet.ciiva.com/22657/1727942-22657834.pdf; ComponentLink10Description: https://datasheet.ciiva.com/22657/1727942-22657834.pdf; ComponentLink11URL: https://datasheet.ciiva.com/326/mflsmf-326540.pdf; ComponentLink11Description: https://datasheet.ciiva.com/326/mflsmf-326540.pdf; ComponentLink12URL: https://datasheet.ciiva.com/48686/001055627-da-01-en-sich-ptc-res-mf-lsmf185-33x-2-1-85a33v-48686507.pdf; ComponentLink12Description: https://datasheet.ciiva.com/48686/001055627-da-01-en-sich-ptc-res-mf-lsmf185-33x-2-1-85a33v-48686507.pdf
footprint MF-LSMF185/33X
pins: 1, 2

## F_MF-NSMF020-2
designator F?, comment MF-NSMF020-2
FUSE RESETTABLE .20A HOLD SMD; Manufacturer: Bourns; Supplier 1: Digi-Key; Supplier Part Number 1: MF-NSMF020-2CT-ND; Case/Package: 1206; ComponentLink1URL: https://datasheet.ciiva.com/27056/2020355-27056263.pdf; ComponentLink1Description: https://datasheet.ciiva.com/27056/2020355-27056263.pdf; ComponentLink2URL: https://datasheet.ciiva.com/3019/mfnsmf-3019634.pdf; ComponentLink2Description: https://datasheet.ciiva.com/3019/mfnsmf-3019634.pdf; ComponentLink3URL: https://datasheet.ciiva.com/3019/mfnsmf-3019635.pdf; ComponentLink3Description: https://datasheet.ciiva.com/3019/mfnsmf-3019635.pdf; ComponentLink4URL: https://datasheet.ciiva.com/22712/1738992-22712181.pdf; ComponentLink4Description: https://datasheet.ciiva.com/22712/1738992-22712181.pdf; ComponentLink5URL: https://datasheet.ciiva.com/46385/1738992-46385141.pdf; ComponentLink5Description: https://datasheet.ciiva.com/46385/1738992-46385141.pdf; ComponentLink6URL: https://datasheet.ciiva.com/30142/mfnsmf-30142502.pdf; ComponentLink6Description: https://datasheet.ciiva.com/30142/mfnsmf-30142502.pdf; ComponentLink7URL: https://datasheet.ciiva.com/28411/1738992-28411608.pdf; ComponentLink7Description: https://datasheet.ciiva.com/28411/1738992-28411608.pdf; ComponentLink8URL: https://datasheet.ciiva.com/326/mfnsmf-326476.pdf; ComponentLink8Description: https://datasheet.ciiva.com/326/mfnsmf-326476.pdf; ComponentLink9URL: https://datasheet.ciiva.com/326/mfnsmf-326477.pdf; ComponentLink9Description: https://datasheet.ciiva.com/326/mfnsmf-326477.pdf; ComponentLink10URL: https://datasheet.ciiva.com/4501/mfnsmf-48043-4501261.pdf; ComponentLink10Description: https://datasheet.ciiva.com/4501/mfnsmf-48043-4501261.pdf; ComponentLink11URL: https://datasheet.ciiva.com/326/mfnsmf-326478.pdf; ComponentLink11Description: https://datasheet.ciiva.com/326/mfnsmf-326478.pdf; ComponentLink12URL: https://datasheet.ciiva.com/16206/mfnsmf-16206078.pdf; ComponentLink12Description: https://datasheet.ciiva.com/16206/mfnsmf-16206078.pdf; ComponentLink13URL: https://datasheet.ciiva.com/8005/1-8005327.pdf; ComponentLink13Description: https://datasheet.ciiva.com/8005/1-8005327.pdf; ComponentLink14URL: https://datasheet.ciiva.com/18427/70153456-18427711.pdf; ComponentLink14Description: https://datasheet.ciiva.com/18427/70153456-18427711.pdf; ComponentLink15URL: https://datasheet.ciiva.com/48700/001055649-da-01-en-sich-ptc-reset-mf-nsmf020-2-0-2a-24v-48700198.pdf; ComponentLink15Description: https://datasheet.ciiva.com/48700/001055649-da-01-en-sich-ptc-reset-mf-nsmf020-2-0-2a-24v-48700198.pdf; Manufacturer Part Number: MF-NSMF020-2
footprint 1206_PTC
pins: 1, 2

## L
designator L?
SMD  Inductor, generic
footprint 0402_L
footprint 0603_L
footprint 0805_L
pins: 1, 2

## L_74279265
designator L?, comment 74279265  (value not drawn)
SMD EMI Suppression Ferrite Bead WE-CBF, Z = 600 Ohm; Manufacturer 1: Würth; Manufacturer Part Number 1: 74279265; ComponentLink1Description: Manufacturer URL; ComponentLink1URL: http://www.we-online.com; ComponentLink2Description: Datasheet; ComponentLink2URL: http://www.we-online.de/katalog/media/pdf/74279265.pdf; Case/Package: 0603; ComponentLink3URL: https://datasheet.ciiva.com/1015/742792655-1015432.pdf; ComponentLink3Description: https://datasheet.ciiva.com/1015/742792655-1015432.pdf; ComponentLink4URL: https://datasheet.ciiva.com/14632/0900766b801ef1ad-14632841.pdf; ComponentLink4Description: https://datasheet.ciiva.com/14632/0900766b801ef1ad-14632841.pdf; ComponentLink5URL: https://datasheet.ciiva.com/4940/74279265-50879-4940490.pdf; ComponentLink5Description: https://datasheet.ciiva.com/4940/74279265-50879-4940490.pdf; ComponentLink6URL: https://datasheet.ciiva.com/23763/74279265-23763005.pdf; ComponentLink6Description: https://datasheet.ciiva.com/23763/74279265-23763005.pdf; ComponentLink7URL: https://datasheet.ciiva.com/1013/74279265-1013368.pdf; ComponentLink7Description: https://datasheet.ciiva.com/1013/74279265-1013368.pdf; ComponentLink8URL: https://datasheet.ciiva.com/11799/0900766b801ef1ad-11799650.pdf; ComponentLink8Description: https://datasheet.ciiva.com/11799/0900766b801ef1ad-11799650.pdf; ComponentLink9URL: https://datasheet.ciiva.com/1475/1696014-1475347.pdf; ComponentLink9Description: https://datasheet.ciiva.com/1475/1696014-1475347.pdf; ComponentLink10URL: https://datasheet.ciiva.com/22711/1696014-22711419.pdf; ComponentLink10Description: https://datasheet.ciiva.com/22711/1696014-22711419.pdf; ComponentLink11URL: https://datasheet.ciiva.com/48698/001087055-da-01-ml-we-cbf-smd-ferrit-74279265-de-en-48698359.pdf; ComponentLink11Description: https://datasheet.ciiva.com/48698/001087055-da-01-ml-we-cbf-smd-ferrit-74279265-de-en-48698359.pdf; Supplier 1: Digi-Key; Supplier Part Number 1: 732-1583-1-ND
footprint 0603_L
pins: 1, 2

## L_742792651
designator L?, comment 742792651
FERRITE BEAD 600 OHM 1.0A 0603; Manufacturer: Wurth Electronics; Tolerance: 25%; Current Rating: 1A; Impedance: 600R; Number of Lines: 1; DC Resistance (DCR): 200mR; Test Frequency: 100MHz; Inductance: 0.36h; Supplier 1: Digi-Key; Supplier Part Number 1: 732-1593-1-ND; Manufacturer Part Number: 742792651; Stock 1: 383566; Pricing 1: 1=0.17, 50=0.168, 100=0.155, 500=0.148, 1000=0.141, 2000=0.134 (USD); Mount: Surface Mount; Case/Package: SMD/SMT; Weight: 0.000141oz; Case Code (Metric): 1608; Case Code (Imperial): 0603; Material: Ferrite; Core Material: Ferrite; Min Operating Temperature: -55°C; Max Operating Temperature: 125°C; Package Quantity: 1; Packaging: Tape and Reel; Max Current Rating: 1A; Max DC Current: 1A; Termination: SMD/SMT; Resistance: 200mR; Length: 1.6mm; Height: 0.8mm; Width: 0.8mm; Depth: 0.8mm; REACH SVHC: Unknown; Lead Free: Lead Free; ComponentLink1URL: http://documents.rs-components.com/techlib://itc_doclist_GB.htm?stockno=6694046; ComponentLink1Description: http://documents.rs-components.com/techlib://itc_doclist_GB.htm?stockno=6694046; ComponentLink2URL: http://www.farnell.com/datasheets/1705833.pdf; ComponentLink2Description: http://www.farnell.com/datasheets/1705833.pdf; ComponentLink3URL: https://katalog.we-online.de/pbs/datasheet/742792651.pdf; ComponentLink3Description: https://katalog.we-online.de/pbs/datasheet/742792651.pdf; ComponentLink4URL: http://www.mouser.com/ds/2/445/742792651-538156.pdf; ComponentLink4Description: http://www.mouser.com/ds/2/445/742792651-538156.pdf
footprint 0603_L
pins: 1, 2

## L_744031100
designator L?, comment 744031100  (value not drawn)
SMD Shielded Tiny Power Inductor WE-TPC, L = 10.0 µH; Manufacturer 1: Würth; Manufacturer Part Number 1: 744031100; ComponentLink1Description: Manufacturer URL; ComponentLink1URL: http://www.we-online.com; ComponentLink2Description: Datasheet; ComponentLink2URL: http://www.we-online.de/katalog/media/pdf/744031100.pdf; Case/Package: Nonstandard; ComponentLink3URL: https://datasheet.ciiva.com/11799/0900766b8079f7b2-11799684.pdf; ComponentLink3Description: https://datasheet.ciiva.com/11799/0900766b8079f7b2-11799684.pdf; ComponentLink4URL: https://datasheet.ciiva.com/4961/744031100-72715-4961390.pdf; ComponentLink4Description: https://datasheet.ciiva.com/4961/744031100-72715-4961390.pdf; ComponentLink5URL: https://datasheet.ciiva.com/1567/744031100-1567208.pdf; ComponentLink5Description: https://datasheet.ciiva.com/1567/744031100-1567208.pdf; ComponentLink6URL: https://datasheet.ciiva.com/1050/744031100-1050622.pdf; ComponentLink6Description: https://datasheet.ciiva.com/1050/744031100-1050622.pdf; ComponentLink7URL: https://datasheet.ciiva.com/1050/744031100-1050623.pdf; ComponentLink7Description: https://datasheet.ciiva.com/1050/744031100-1050623.pdf; ComponentLink8URL: https://datasheet.ciiva.com/1050/744031100-1050621.pdf; ComponentLink8Description: https://datasheet.ciiva.com/1050/744031100-1050621.pdf; ComponentLink9URL: https://datasheet.ciiva.com/1473/744031100-1473425.pdf; ComponentLink9Description: https://datasheet.ciiva.com/1473/744031100-1473425.pdf; ComponentLink10URL: https://datasheet.ciiva.com/1473/744031100-1473424.pdf; ComponentLink10Description: https://datasheet.ciiva.com/1473/744031100-1473424.pdf; ComponentLink11URL: https://datasheet.ciiva.com/48691/001087154-da-01-ml-we-tpc-smd-speicherdrossel-7440311-de-en-48691029.pdf; ComponentLink11Description: https://datasheet.ciiva.com/48691/001087154-da-01-ml-we-tpc-smd-speicherdrossel-7440311-de-en-48691029.pdf; Supplier 1: Digi-Key; Supplier Part Number 1: 732-1010-1-ND
footprint WE-TPC-3816-S (SMD Inductor, 2-Leads, Body 3.8x3.8x1.8 mm)
pins: 1, 2

## L_744031220
designator L?, comment 744031220  (value not drawn)
SMD Shielded Tiny Power Inductor WE-TPC, L = 22.0 µH; Manufacturer 1: Würth; Manufacturer Part Number 1: 744031220; ComponentLink1Description: Manufacturer URL; ComponentLink1URL: http://www.we-online.com; ComponentLink2Description: Datasheet; ComponentLink2URL: http://www.we-online.de/katalog/media/pdf/744031220.pdf; Case/Package: Nonstandard; ComponentLink3URL: https://datasheet.ciiva.com/4961/744031220-79613-4961173.pdf; ComponentLink3Description: https://datasheet.ciiva.com/4961/744031220-79613-4961173.pdf; ComponentLink4URL: https://datasheet.ciiva.com/7210/744031220-7210946.pdf; ComponentLink4Description: https://datasheet.ciiva.com/7210/744031220-7210946.pdf; ComponentLink5URL: https://datasheet.ciiva.com/11800/0900766b8079f7b9-11800353.pdf; ComponentLink5Description: https://datasheet.ciiva.com/11800/0900766b8079f7b9-11800353.pdf; ComponentLink6URL: https://datasheet.ciiva.com/7691/744031220-7691543.pdf; ComponentLink6Description: https://datasheet.ciiva.com/7691/744031220-7691543.pdf; ComponentLink7URL: https://datasheet.ciiva.com/14123/lp744031220-data-de-14123802.pdf; ComponentLink7Description: https://datasheet.ciiva.com/14123/lp744031220-data-de-14123802.pdf; ComponentLink8URL: https://datasheet.ciiva.com/1058/744031220-1058566.pdf; ComponentLink8Description: https://datasheet.ciiva.com/1058/744031220-1058566.pdf; ComponentLink9URL: https://datasheet.ciiva.com/1058/744031220-1058567.pdf; ComponentLink9Description: https://datasheet.ciiva.com/1058/744031220-1058567.pdf; Supplier 1: Digi-Key; Supplier Part Number 1: 732-1012-1-ND
footprint WE-TPC-3816-S (SMD Inductor, 2-Leads, Body 3.8x3.8x1.8 mm)
pins: 1, 2

## L_744235900
designator L?, comment 744235900
CHOKE COM MODE 90 OHM 2A SMD; Manufacturer: Wurth Electronics; Supplier 1: Digi-Key; Supplier Part Number 1: 732-4223-1-ND; Manufacturer Part Number: 744235900; ComponentLink1URL: https://datasheet.ciiva.com/6216/744235900-6216097.pdf; ComponentLink1Description: https://datasheet.ciiva.com/6216/744235900-6216097.pdf; ComponentLink2URL: https://datasheet.ciiva.com/8051/1735646-8051205.pdf; ComponentLink2Description: https://datasheet.ciiva.com/8051/1735646-8051205.pdf; ComponentLink3URL: https://datasheet.ciiva.com/23755/1668094-23755210.pdf; ComponentLink3Description: https://datasheet.ciiva.com/23755/1668094-23755210.pdf; ComponentLink4URL: https://datasheet.ciiva.com/25607/0900766b811a4276-25607311.pdf; ComponentLink4Description: https://datasheet.ciiva.com/25607/0900766b811a4276-25607311.pdf; ComponentLink5URL: https://datasheet.ciiva.com/12379/744235900-12379703.pdf; ComponentLink5Description: https://datasheet.ciiva.com/12379/744235900-12379703.pdf; ComponentLink6URL: https://datasheet.ciiva.com/48691/001087393-da-01-ml-we-cnsw-stromk-smd-line-filter-744-de-en-48691418.pdf; ComponentLink6Description: https://datasheet.ciiva.com/48691/001087393-da-01-ml-we-cnsw-stromk-smd-line-filter-744-de-en-48691418.pdf
footprint 744235900
pins: 1, 2, 3, 4

## L_ACM-0603-900-T
designator L?, comment ACM-0603-900-T
INDUCTOR COMMON MODE SMD; Manufacturer: Abracon; Supplier 1: Digi-Key; Supplier Part Number 1: 535-12407-1-ND; Manufacturer Part Number: ACM-0603-900-T; Case/Package: 0603; ComponentLink1URL: https://datasheet.ciiva.com/29370/acm-0603-29370512.pdf; ComponentLink1Description: https://datasheet.ciiva.com/29370/acm-0603-29370512.pdf; ComponentLink2URL: http://www.mouser.com/ds/2/115/AP21410_21510-740863.pdf; ComponentLink2Description: http://www.mouser.com/ds/2/115/AP21410_21510-740863.pdf; ComponentLink3URL: http://www.diodes.com/_files/datasheets/AP21410_21510.pdf; ComponentLink3Description: http://www.diodes.com/_files/datasheets/AP21410_21510.pdf
footprint ACM-0603-900-T
pins: 1, 2, 3, 4

## L_CB2518T471K
designator L?, comment CB2518T471K
Fixed Inductors INDCTR HI CUR WND 1007 470uH 10%; Manufacturer: Taiyo Yuden; Supplier 1: Digi-Key; Supplier Part Number 1: 587-2194-1-ND; Manufacturer Part Number: CB2518T471K; ComponentLink1Description: http://ds.yuden.co.jp/TYCOMPAS/ut/detail.do?productNo=CB2518T471K&fileName=CB2518T471K_SS; ComponentLink1URL: http://ds.yuden.co.jp/TYCOMPAS/ut/detail.do?productNo=CB2518T471K&fileName=CB2518T471K_SS&mode=specSheetDownload; ComponentLink2Description: https://www.yuden.co.jp/productdata/catalog/wound02_e.pdf; ComponentLink2URL: https://www.yuden.co.jp/productdata/catalog/wound02_e.pdf
footprint 1007_L
pins: 1, 2

## L_PT61017PEL
designator L?, comment PT61017PEL
Audio & Signal Transformers LAN 10/100 Tin Potted; Manufacturer: Bourns; Supplier 1: Digi-Key; Supplier Part Number 1: PT61017PELCT-ND; Manufacturer Part Number: PT61017PEL; Case/Package: SMD/SMT; ComponentLink1URL: https://datasheet.ciiva.com/23967/pt61017pel-23967552.pdf; ComponentLink1Description: https://datasheet.ciiva.com/23967/pt61017pel-23967552.pdf; ComponentLink2URL: https://datasheet.ciiva.com/31413/1768532-31413328.pdf; ComponentLink2Description: https://datasheet.ciiva.com/31413/1768532-31413328.pdf; ComponentLink3URL: https://datasheet.ciiva.com/24150/pt61017pel-270447-24150505.pdf; ComponentLink3Description: https://datasheet.ciiva.com/24150/pt61017pel-270447-24150505.pdf; ComponentLink4URL: https://datasheet.ciiva.com/28459/pt61017pel-28459578.pdf; ComponentLink4Description: https://datasheet.ciiva.com/28459/pt61017pel-28459578.pdf; ComponentLink5URL: https://datasheet.ciiva.com/29632/pt61017pel-29632986.pdf; ComponentLink5Description: https://datasheet.ciiva.com/29632/pt61017pel-29632986.pdf; ComponentLink6URL: https://datasheet.ciiva.com/29632/pt61017pel-29632987.pdf; ComponentLink6Description: https://datasheet.ciiva.com/29632/pt61017pel-29632987.pdf
footprint PT61017PEL
pins: 1 TD+, 2 CT, 3 TD-, 6 RD+, 7 CT, 8 RD-, 9 RX-, 10 CT, 11 RX+, 14 TX-, 15 CT, 16 TX+
text: 1CT:1CT

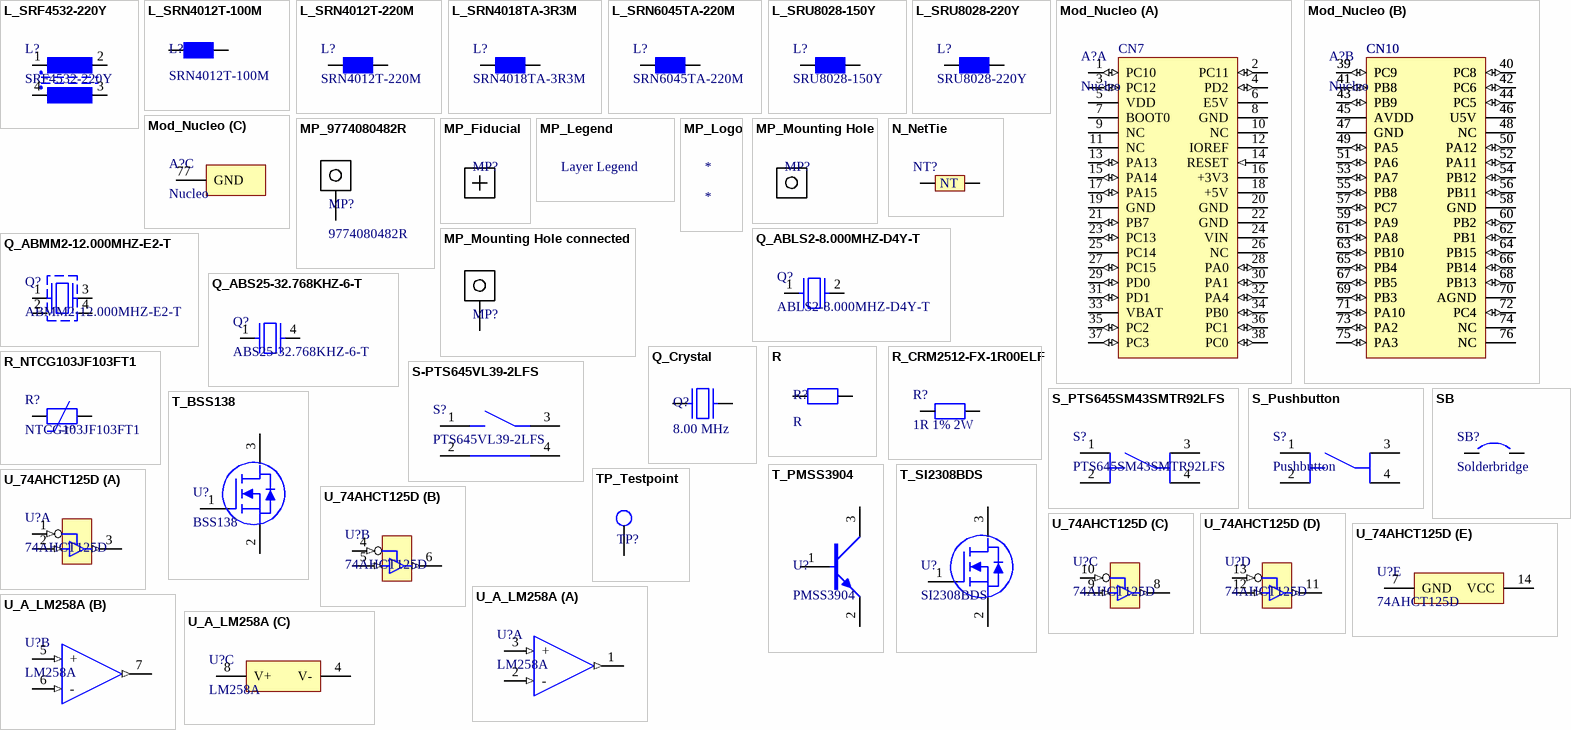
[diagram p1: symbols L_SRF4532-220Y to U_A_LM258A]

## L_SRF4532-220Y
designator L?, comment SRF4532-220Y
BOURNS SRF4532-220Y INDUCTOR, COMMON MODE, 22UH,  0.2A; ComponentLink1URL: https://datasheet.ciiva.com/7847/srf4532-7847901.pdf; ComponentLink1Description: https://datasheet.ciiva.com/7847/srf4532-7847901.pdf; ComponentLink2URL: https://datasheet.ciiva.com/6214/srf4532-6214766.pdf; ComponentLink2Description: https://datasheet.ciiva.com/6214/srf4532-6214766.pdf; ComponentLink3URL: https://datasheet.ciiva.com/6214/srf4532-6214765.pdf; ComponentLink3Description: https://datasheet.ciiva.com/6214/srf4532-6214765.pdf; ComponentLink4URL: https://datasheet.ciiva.com/22628/1911192-22628122.pdf; ComponentLink4Description: https://datasheet.ciiva.com/22628/1911192-22628122.pdf; ComponentLink5URL: https://datasheet.ciiva.com/48686/001056378-da-01-en-indukt-kom-mod-srf4532-220y-22uh-0-2a-48686762.pdf; ComponentLink5Description: https://datasheet.ciiva.com/48686/001056378-da-01-en-indukt-kom-mod-srf4532-220y-22uh-0-2a-48686762.pdf; ComponentLink6URL: https://datasheet.ciiva.com/29370/acm-0603-29370512.pdf; ComponentLink6Description: https://datasheet.ciiva.com/29370/acm-0603-29370512.pdf; Supplier 1: Digi-Key; Supplier Part Number 1: SRF4532-220YCT-ND; Manufacturer: Bourns; Manufacturer Part Number: SRF4532-220Y; Case/Package: 4532
footprint SRF4532 (Common Mode Chip Inductors)
pins: 1, 2, 3, 4